# Altium footprint library Ad_Fpga.PcbLib: 52 footprints (part 1 of 4)
Each footprint in its own frame and in the unit in brackets; x right, y up, seen from the top. Pads: shape width x height; smd on the part's side, far side on the other; paste and mask are expansions set on the pad; w line width, h text height; cw(c..) or ccw(c..) is an arc to the next point about the centre after c.
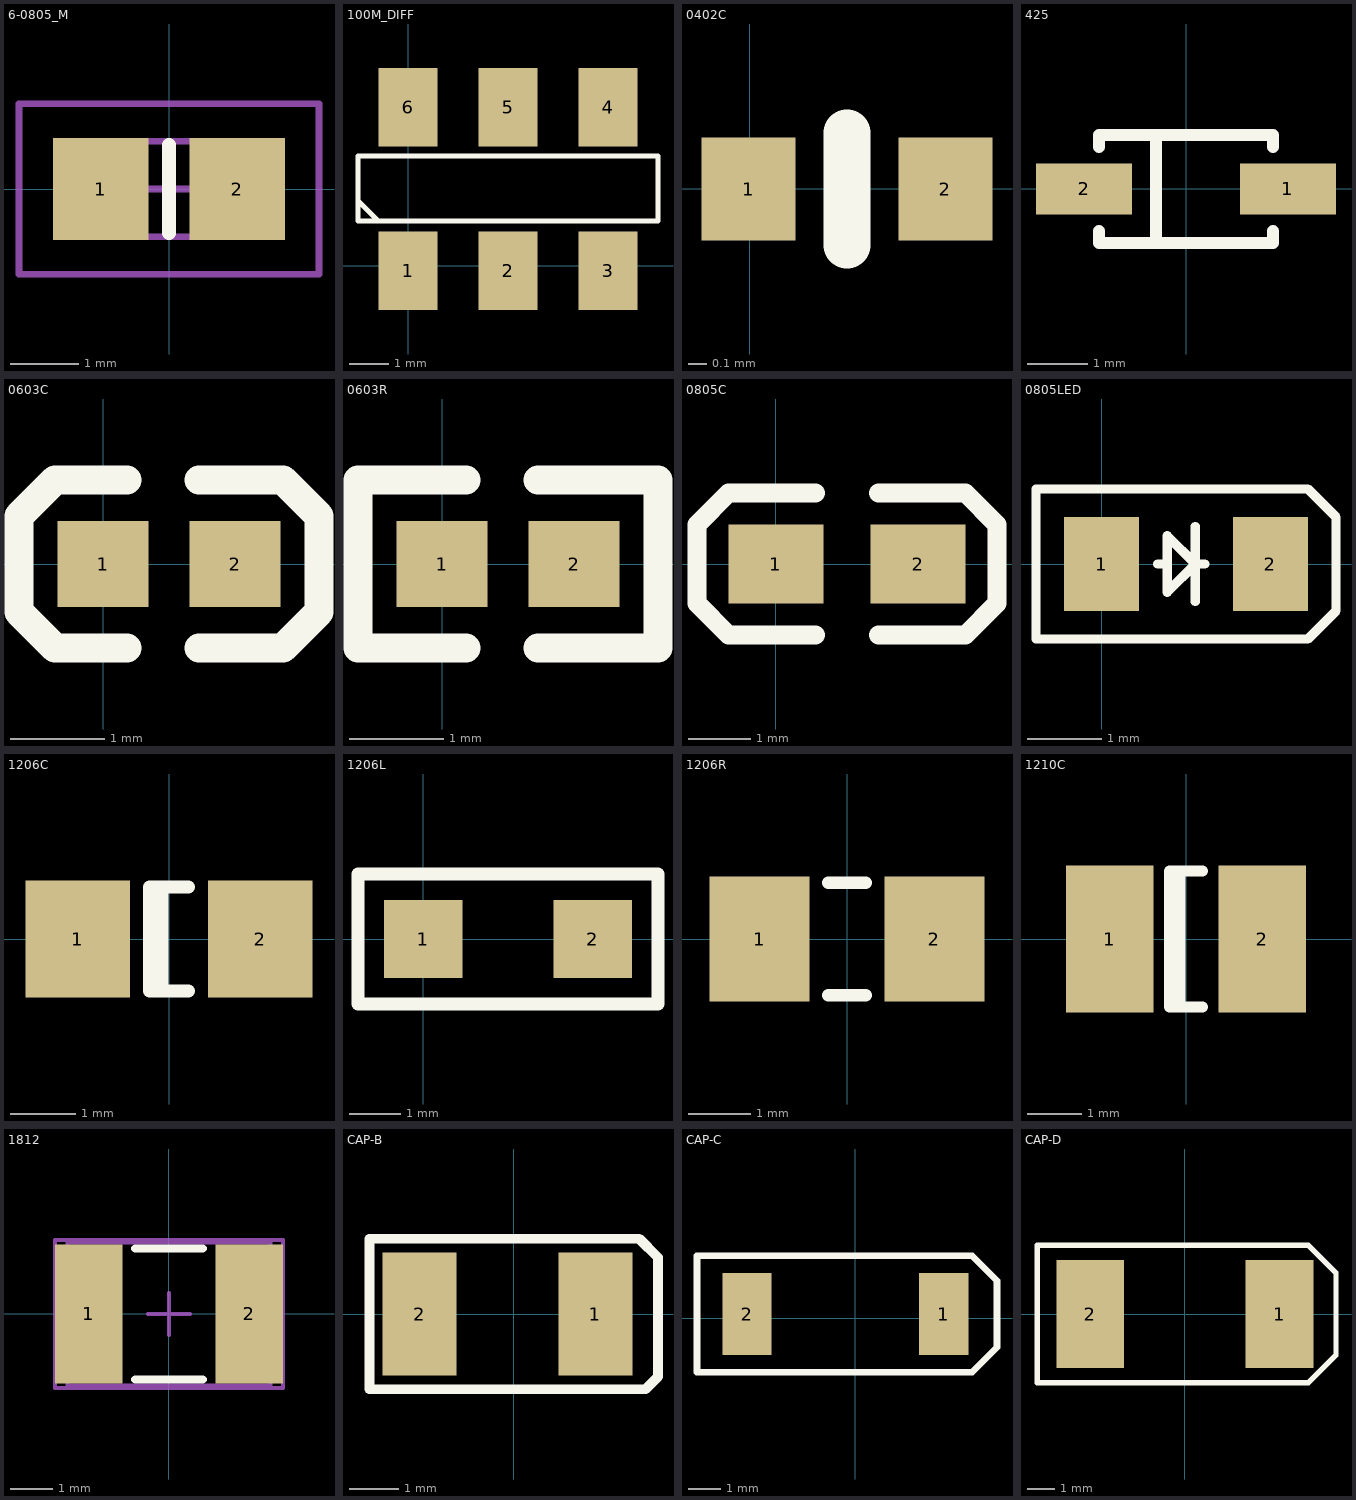
[diagram p0: the footprints below, top view; thin cyan lines are the x and y axes]

## 6-0805_M [mm] "Chip Resistor, Body 2.0x1.2mm, IPC Low Density"
height 0.7
pads (2):
  rect 1.4x1.5 smd: 1(-1,0) 2(1,0)
Top Overlay:
  lines w0.2: 0,-0.65 0,0.65
Mechanical 13:
  lines w0.1: -1.075,-0.7 -1.075,0.7 1.075,0.7 1.075,-0.7 -1.075,-0.7
Mechanical 15:
  lines w0.1: -0.5,0 0.5,0 ; 0,-0.5 0,0.5 ; -2.2,-1.25 -2.2,1.25 2.2,1.25 2.2,-1.25 -2.2,-1.25
3D body: height 0.7, standoff 0, extent -1.075,-0.7 1.075,0.7

## 100M_DIFF [mm]
height 3
pads (6):
  rect 1.5x2 smd: 1(0,-0.127) 2(2.54,-0.127) 3(5.08,-0.127) 4(5.08,4.027) 5(2.54,4.027) 6(0,4.027)
Top Overlay:
  lines w0.127: -1.27,1.778 -1.27,1.651 -0.762,1.143 ; -1.27,1.143 6.35,1.143 6.35,2.794 -1.27,2.794 -1.27,1.143

## 0402C [mil]
height 53.15
pads (2):
  rect 20x22 smd: 1(-0.3,-0.02) 2(41.7,-0.02)
Top Overlay:
  lines w10: 20.7,-12.02 20.7,11.98

## 425 [mm] "SOD-123; 2 Leads; Body 2.7 x 1.6 mm, (LxW)"
height 1.35
pads (2):
  rect 1.6x0.85 smd: 1(1.7,0) 2(-1.7,0)
Top Overlay:
  lines w0.2: -1.45,-0.7 -1.45,-0.9 1.45,-0.9 1.45,-0.7 ; -1.45,0.7 -1.45,0.9 1.45,0.9 1.45,0.7 ; -0.5,-0.9 -0.5,0.9

## 0603C [mil]
height 53.15
pads (2):
  rect 38x36 smd: 1(0,0) 2(55,0)
Top Overlay:
  lines w12: 10,-35 -20,-35 -35,-20 -35,20 -20,35 10,35 ; 40,-35 75,-35 90,-20 90,20 75,35 40,35

## 0603R [mil]
height 53.15
pads (2):
  rect 38x36 smd: 1(0,0) 2(55,0)
Top Overlay:
  lines w12: 10,-35 -35,-35 -35,35 10,35 ; 40,-35 90,-35 90,35 40,35

## 0805C [mil]
height 53.15
pads (2):
  rect 60x50 smd: 1(0,0) 2(90,0)
Top Overlay:
  lines w12: 25,-45 -30,-45 -50,-25 -50,25 -30,45 25,45 ; 65,-45 120,-45 140,-25 140,25 120,45 65,45

## 0805LED [mil]
height 118.11
pads (2):
  rect 40x50 smd: 1(0,0) 2(90,0)
Top Overlay:
  lines w5: 30,0 35,0 ; 50,-20 50,20 ; 55,0 50,0 ; 35,0 35,15 50,0 ; 35,0 35,-15 50,0 ; -35,-40 100,-40 110,-40 125,-25 125,25 110,40 -35,40 -35,-40

## 1206C [mm] "Chip Capacitor; Body 3.2 x 1.6 mm (LxW typ)"
height 1.35
pads (2):
  rect 1.6x1.8 smd: 1(-1.4,0) 2(1.4,0)
Top Overlay:
  lines w0.2: -0.11,-0.8 -0.11,0.8 ; 0.3,-0.8 -0.3,-0.8 -0.3,0.8 0.3,0.8

## 1206L [mil]
height 118.11
pads (2):
  rect 60x60 smd: 1(0,0) 2(130,0)
Top Overlay:
  lines w10: -50,-50 -50,50 180,50 180,-50 -50,-50

## 1206R [mm] "Metal Electrode Face (MELF) Resistor; Body 3.2 x 1.8 mm (LxDia)"
height 1.85
pads (2):
  rect 1.6x2 smd: 1(-1.4,0) 2(1.4,0)
Top Overlay:
  lines w0.2: -0.3,-0.9 0.3,-0.9 ; -0.3,0.9 0.3,0.9

## 1210C [mm] "Chip Capacitor; Body 3.2 x 2.5 mm (LxW typ)"
height 1.35
pads (2):
  rect 1.6x2.7 smd: 1(-1.4,0) 2(1.4,0)
Top Overlay:
  lines w0.2: -0.11,-1.25 -0.11,1.25 ; 0.3,-1.25 -0.3,-1.25 -0.3,1.25 0.3,1.25

## 1812 [mm] "Chip Capacitor, Body 4.5x3.2mm, IPC High Density"
height 1.4
pads (2):
  rect 1.6x3.3 smd: 1(-1.9,0) 2(1.9,0)
Top Overlay:
  lines w0.2: -0.8,-1.55 0.8,-1.55 ; -0.8,1.55 0.8,1.55
Mechanical 13:
  lines w0.1: -2.4,-1.7 2.4,-1.7 2.4,1.7 -2.4,1.7 -2.4,-1.7
Mechanical 15:
  lines w0.1: -0.5,0 0.5,0 ; 0,-0.5 0,0.5 ; -2.7,-1.75 2.7,-1.75 2.7,1.75 -2.7,1.75 -2.7,-1.75
3D body: height 1.4, standoff 0, extent -2.4,-1.7 2.4,1.7

## CAP-B [mm]
height 2.3
pads (2):
  rect 1.5x2.5 smd: 1(1.651,0) 2(-1.905,0)
Top Overlay:
  lines w0.2: -2.921,-1.524 -2.921,1.524 2.54,1.524 2.921,1.143 2.921,-1.27 2.667,-1.524 -2.921,-1.524

## CAP-C [mm]
pads (2):
  rect 1.5x2.5 smd: 1(2.698,0.127) 2(-3.302,0.127)
Top Overlay:
  lines w0.15: -4.826,-1.651 1.651,-1.651 ; -4.826,1.905 1.651,1.905
  lines w0.2: -4.826,-1.651 -4.826,1.905 1.651,1.905 3.556,1.905 4.318,1.143 4.318,-0.889 3.556,-1.651 1.651,-1.651 -4.826,-1.651

## CAP-D [mm]
height 2.3
pads (2):
  rect 2.5x4 smd: 1(3.5,0) 2(-3.5,0)
Top Overlay:
  lines w0.15: -5.461,-2.54 -5.461,2.54
  lines w0.2: -5.461,-2.54 -5.461,2.54 4.572,2.54 5.588,1.524 5.588,-1.524 4.572,-2.54 -5.461,-2.54